# Altium schematic symbol library LTC2050CS5.Schlib: 1 symbol
Pins are listed as number, name and electrical type; pins without a type are passive.

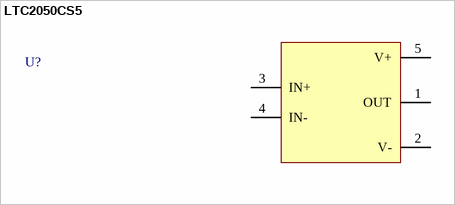
[diagram p0: symbol LTC2050CS5]

## LTC2050CS5
designator U?
Zero-Drift Operational Amplifiers
pins: 1 OUT (power), 2 V- (power), 3 IN+, 4 IN-, 5 V+ (power)